# EAGLE library part TE-8PIN-SCREW-282834-8 (library CONN, te 8 pin screw - 282834-8)
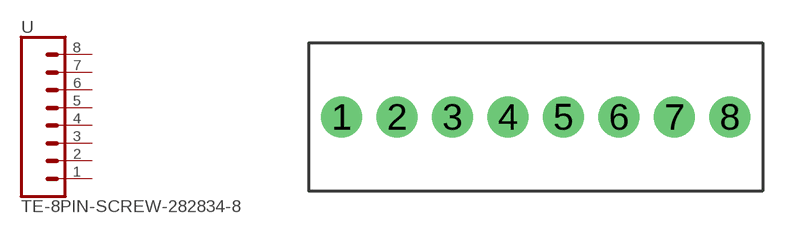
[diagram p0: symbol with the pads of 1X08; footprint 1X08]

Designator prefix -

## TE-8PIN-SCREW-282834-8  [1X08]
1  1  pas
2  2  pas
3  3  pas
4  4  pas
5  5  pas
6  6  pas
7  7  pas
8  8  pas

## Footprint 1X08 (pad centres in mm)
Plated Through Hole -8 Pin Specifications: Pin count:8 Pin pitch:0.1" Example device(s): CONN_08
drill 1.016 pad 1.88: 1 0,0; 2 2.54,0; 3 5.08,0; 4 7.62,0; 5 10.16,0; 6 12.7,0; 7 15.24,0; 8 17.78,0